# Altium footprint library Footprints.PcbLib: 3 footprints
Each footprint in its own frame and in the unit in brackets; x right, y up, seen from the top. Pads: shape width x height; smd on the part's side, far side on the other; paste and mask are expansions set on the pad; w line width, h text height; cw(c..) or ccw(c..) is an arc to the next point about the centre after c.
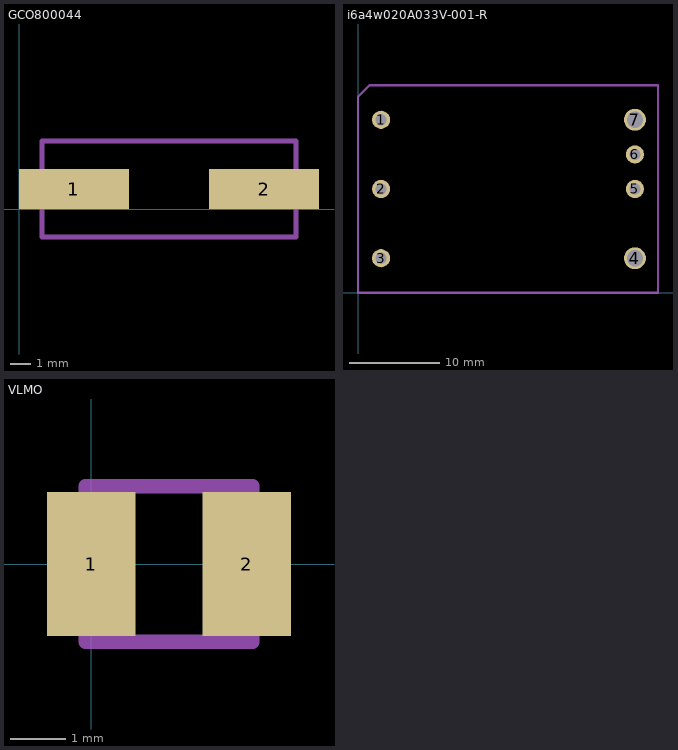
[diagram p0: the footprints below, top view; thin cyan lines are the x and y axes]

## GCO800044 [mm]
pads (2):
  rect 5.5x2 all layers, no hole: 1(2.75,1) 2(12.25,1)
Mechanical 1:
  lines w0.254: 1.15,-1.4 1.15,3.4 13.85,3.4 13.85,-1.4 1.15,-1.4

## i6a4w020A033V-001-R [mil] "TDK Lambda DC/DC Converter"
pads (7):
  round 78.75 hole 48: 1(100,750) 2(100,450) 3(100,150) 5(1200,450) 6(1200,600)
  round 95 hole 70: 4(1200,150) 7(1200,750)
Mechanical 1:
  lines w10: 0,0 0,850 50,900 1300,900 1300,0 0,0
3D body "i6a4W DC-DC Converter Model.SLDPRT": height 474, standoff -140, extent 0,0 1300,900

## VLMO [mm] "Vishay - VLMO31K1L2-GS08"
pads (2):
  rect 1.6x2.6 all layers, no hole: 1(0,0) 2(2.8,0)
Mechanical 1:
  lines w0.254: -0.1,-1.4 -0.1,1.4 2.9,1.4 2.9,-1.4 -0.1,-1.4